# EAGLE library part ADS7883 (library William)
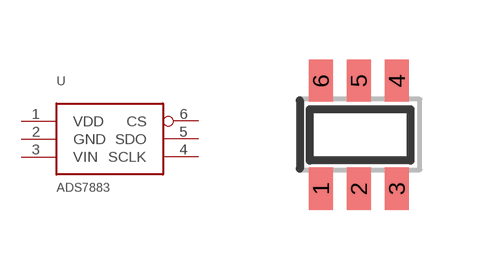
[diagram p2: symbol with the pads of SOT-23-6; footprint SOT-23-6]

Designator prefix -

## ADS7883  [SOT-23-6]
1  VDD  pwr
2  GND  pas
3  VIN  in
4  SCLK  in
5  SDO  out
6  CS  in

## Footprint SOT-23-6 (pad centres in mm)
smd 0.6 x 1.05: 1 0,0; 2 0.95,0; 3 1.9,0; 4 1.9,2.7; 5 0.95,2.7; 6 0,2.7